# Altium schematic symbol library MT47H256M8HG.SchLib: 1 symbol
Pins are listed as number, name and electrical type; pins without a type are passive.

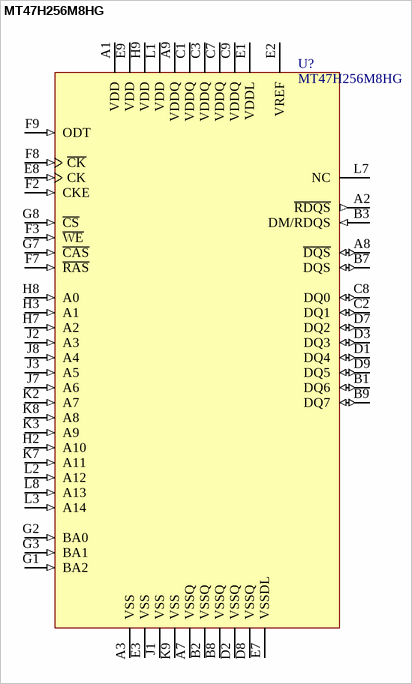
[diagram p0: symbol MT47H256M8HG]

## MT47H256M8HG
designator U?
pins: A1 VDD (power) "Power Supply", A2 ~{RDQS} (out) "Redundant data strobe", A3 VSS (power) "Ground", A7 VSSQ (power) "DQ Ground", A8 ~{DQS} (io) "Data strobe", A9 VDDQ (power) "DQ Power", B1 DQ6 (io) "Data Input/Output 6", B2 VSSQ (power) "DQ Ground", B3 DM/RDQS (in) "Data Mask or RDQS", B7 DQS (io) "Data strobe", B8 VSSQ (power) "DQ Ground", B9 DQ7 (io) "Data Input/Output 7", C1 VDDQ (power) "DQ Power", C2 DQ1 (io) "Data Input/Output 1", C3 VDDQ (power) "DQ Power", C7 VDDQ (power) "DQ Power", C8 DQ0 (io) "Data Input/Output 0", C9 VDDQ (power) "DQ Power", D1 DQ4 (io) "Data Input/Output 4", D2 VSSQ (power) "DQ Ground", D3 DQ3 (io) "Data Input/Output 3", D7 DQ2 (io) "Data Input/Output 2", D8 VSSQ (power) "DQ Ground", D9 DQ5 (io) "Data Input/Output 5", E1 VDDL (power) "DLL Power Supply", E2 VREF (power) "SSTL_18 Reference voltage", E3 VSS (power) "Ground", E7 VSSDL (power) "DLL Ground", E8 CK (in) "Clock", E9 VDD (power) "Power Supply", F2 CKE (in) "Clock Enable", F3 ~{WE} (in) "Command Input", F7 ~{RAS} (in) "Command Input", F8 ~{CK} (in) "Clock", F9 ODT (in) "On-die-termination enable", G1 BA2 (in) "Bank Address Input 2", G2 BA0 (in) "Bank Address Input 0", G3 BA1 (in) "Bank Address Input 1", G7 ~{CAS} (in) "Command Input", G8 ~{CS} (in) "Chip Select", H2 A10 (in) "Address Input 10", H3 A1 (in) "Address Input 1", H7 A2 (in) "Address Input 2", H8 A0 (in) "Address Input 0", H9 VDD (power) "Power Supply", J1 VSS (power) "Ground", J2 A3 (in) "Address Input 3", J3 A5 (in) "Address Input 5", J7 A6 (in) "Address Input 6", J8 A4 (in) "Address Input 4", K2 A7 (in) "Address Input 7", K3 A9 (in) "Address Input 9", K7 A11 (in) "Address Input 11", K8 A8 (in) "Address Input 8", K9 VSS (power) "Ground", L1 VDD (power) "Power Supply", L2 A12 (in) "Address Input 12", L3 A14 (in) "Address Input 14", L7 NC "No Connect (reserved for future use)", L8 A13 (in) "Address Input 13"